# EAGLE library part EPG.0B.307.HLN (library lplemo)
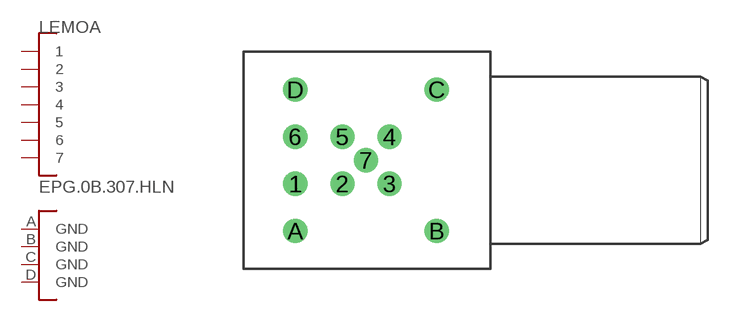
[diagram p8: symbol with the pads of P19-EPG-EXG-0B.307; footprint P19-EPG-EXG-0B.307]

Designator prefix LEMO; gates A=C7 B=GND4

## EPG.0B.307.HLN  [P19-EPG-EXG-0B.307]
1  A:1
2  A:2
3  A:3
4  A:4
5  A:5
6  A:6
7  A:7
A  B:GND  pwr
B  B:GND  pwr
C  B:GND  pwr
D  B:GND  pwr

## Footprint P19-EPG-EXG-0B.307 (pad centres in mm)
drill 0.8 round: 1 -7.62,-1.27; 2 -5.08,-1.27; 3 -2.54,-1.27; 4 -2.54,1.27; 5 -5.08,1.27; 6 -7.62,1.27; 7 -3.81,0; A -7.62,-3.81; B 0,-3.81; C 0,3.81; D -7.62,3.81